# EAGLE library part SUP500F (library locosys)
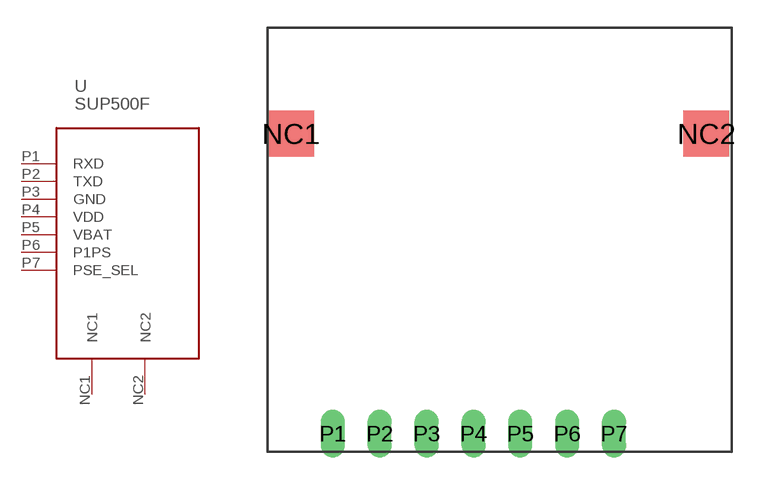
[diagram p0: symbol with the pads of SUP500F; footprint SUP500F]

Designator prefix -

## SUP500F  [SUP500F]
NC1  NC1
NC2  NC2
P1  RXD
P2  TXD
P3  GND
P4  VDD
P5  VBAT
P6  P1PS
P7  PSE_SEL

## Footprint SUP500F (pad centres in mm)
smd 2.5 x 2.5: NC1 -9.89,16.25; NC2 12.62,16.25
drill 0.8 long: P1 -7.62,0; P2 -5.08,0; P3 -2.54,0; P4 0,0; P5 2.54,0; P6 5.08,0; P7 7.62,0